# EAGLE library part XILINX_XC3S50A-4VQG100C (library Xilinx - XC3S50A-4VQG100C)
FPGA-XSP-XC3S50A-VQ100
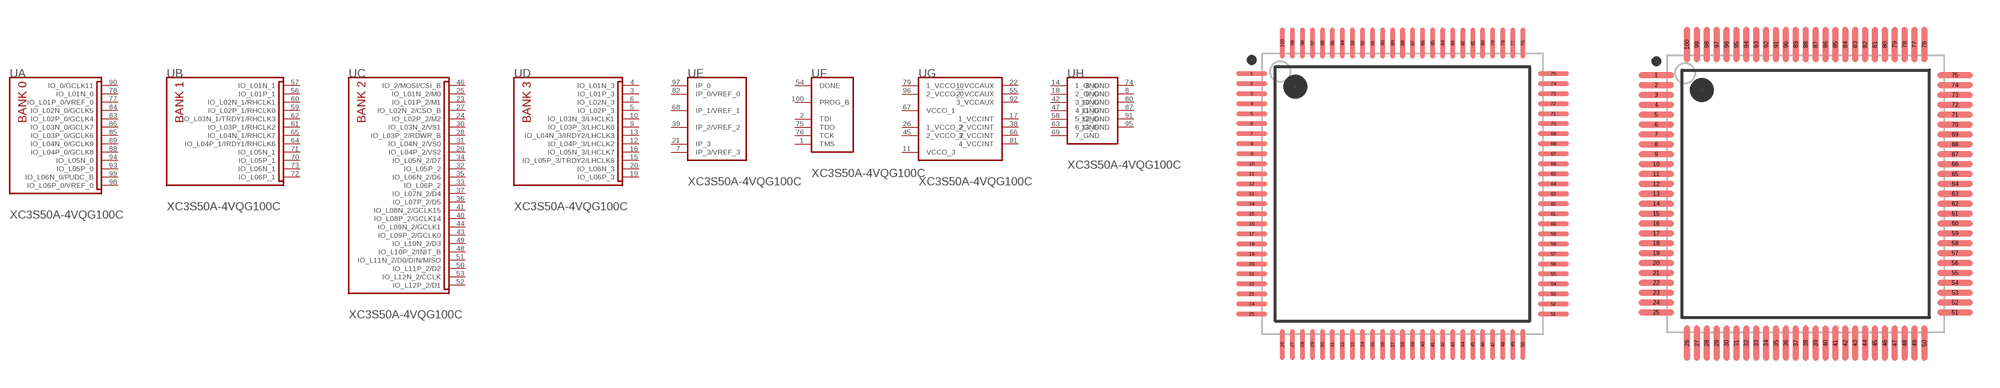
[diagram p0: symbol with the pads of XILINX_XC3S50A-4VQG100C_0; footprints XILINX_XC3S50A-4VQG100C_0, XILINX_XC3S50A-4VQG100C_1]

Designator prefix U; gates A=XILINX_XC3S50A-4VQG100C_0_0 B=XILINX_XC3S50A-4VQG100C_0_1 C=XILINX_XC3S50A-4VQG100C_0_2 D=XILINX_XC3S50A-4VQG100C_0_3 E=XILINX_XC3S50A-4VQG100C_0_4 F=XILINX_XC3S50A-4VQG100C_0_5 G=XILINX_XC3S50A-4VQG100C_0_6 H=XILINX_XC3S50A-4VQG100C_0_7

## XILINX_XC3S50A-4VQG100CXILINX_XC3S50A-4VQG100C_0_0 (CIIVA_IDS: 969722; CODE__JEDEC: MS-026-AED; DATASHEET_VERSION: ver1.8, Mar-2009; FOOTPRINT_VARIANT_NAME_0: Level C; FOOTPRINT_VARIANT_NAME_1: Level B; FOOTPRINT_VARIANT_NAME_2: Level A; IMPORTED: yes; IMPORTED_FROM: vault; IMPORT_TS: 1521866917; MF: Xilinx; MPN: XC3S50A-4VQG100C; PACKAGE: VQG100; PACKAGE_DESCRIPTION: 100-Pin Very Thin Quad Flat Pack (VQG100) - Pb-Free; PACKAGE_VERSION: ver1.2.1, Feb-2007; PIN_0_5_2_INSIDE_EDGE: clock; PREFIX: U; RELEASE_DATE: 1298004393; VAULT_GUID: A8426ADA-BBEF-4931-BDCF-1792DE133352; VAULT_REVISION: FF63C8BF-BEC3-4327-8A72-16ACE5AF5753)  [XILINX_XC3S50A-4VQG100C_0]
1  F:TMS  in
2  F:TDI  in
3  D:IO_L01P_3
4  D:IO_L01N_3
5  D:IO_L02P_3
6  D:IO_L02N_3
7  E:IP_3/VREF_3  in
8  H:9_GND  pwr
9  D:IO_L03P_3/LHCLK0
10  D:IO_L03N_3/LHCLK1
11  G:VCCO_3  pwr
12  D:IO_L04P_3/LHCLK2
13  D:IO_L04N_3/IRDY2/LHCLK3
14  H:1_GND  pwr
15  D:IO_L05P_3/TRDY2/LHCLK6
16  D:IO_L05N_3/LHCLK7
17  G:1_VCCINT  pwr
18  H:2_GND  pwr
19  D:IO_L06P_3
20  D:IO_L06N_3
21  E:IP_3  in
22  G:1_VCCAUX  pwr
23  C:IO_L01P_2/M1
24  C:IO_L02P_2/M2
25  C:IO_L01N_2/M0
26  G:1_VCCO_2  pwr
27  C:IO_L02N_2/CSO_B
28  C:IO_L03P_2/RDWR_B
29  C:IO_L04P_2/VS2
30  C:IO_L03N_2/VS1
31  C:IO_L04N_2/VS0
32  C:IO_L05P_2
33  C:IO_L06P_2
34  C:IO_L05N_2/D7
35  C:IO_L06N_2/D6
36  C:IO_L07P_2/D5
37  C:IO_L07N_2/D4
38  G:2_VCCINT  pwr
39  E:IP_2/VREF_2  in
40  C:IO_L08P_2/GCLK14
41  C:IO_L08N_2/GCLK15
42  H:3_GND  pwr
43  C:IO_L09P_2/GCLK0
44  C:IO_L09N_2/GCLK1
45  G:2_VCCO_2  pwr
46  C:IO_2/MOSI/CSI_B
47  H:4_GND  pwr
48  C:IO_L10P_2/INIT_B
49  C:IO_L10N_2/D3
50  C:IO_L11P_2/D2
51  C:IO_L11N_2/D0/DIN/MISO
52  C:IO_L12P_2/D1
53  C:IO_L12N_2/CCLK
54  F:DONE
55  G:2_VCCAUX  pwr
56  B:IO_L01P_1
57  B:IO_L01N_1
58  H:5_GND  pwr
59  B:IO_L02P_1/RHCLK0
60  B:IO_L02N_1/RHCLK1
61  B:IO_L03P_1/RHCLK2
62  B:IO_L03N_1/TRDY1/RHCLK3
63  H:6_GND  pwr
64  B:IO_L04P_1/IRDY1/RHCLK6
65  B:IO_L04N_1/RHCLK7
66  G:3_VCCINT  pwr
67  G:VCCO_1  pwr
68  E:IP_1/VREF_1  in
69  H:7_GND  pwr
70  B:IO_L05P_1
71  B:IO_L05N_1
72  B:IO_L06P_1
73  B:IO_L06N_1
74  H:8_GND  pwr
75  F:TDO  out
76  F:TCK  in
77  A:IO_L01P_0/VREF_0
78  A:IO_L01N_0
79  G:1_VCCO_0  pwr
80  H:10_GND  pwr
81  G:4_VCCINT  pwr
82  E:IP_0/VREF_0  in
83  A:IO_L02P_0/GCLK4
84  A:IO_L02N_0/GCLK5
85  A:IO_L03P_0/GCLK6
86  A:IO_L03N_0/GCLK7
87  H:11_GND  pwr
88  A:IO_L04P_0/GCLK8
89  A:IO_L04N_0/GCLK9
90  A:IO_0/GCLK11
91  H:12_GND  pwr
92  G:3_VCCAUX  pwr
93  A:IO_L05P_0
94  A:IO_L05N_0
95  H:13_GND  pwr
96  G:2_VCCO_0  pwr
97  E:IP_0  in
98  A:IO_L06P_0/VREF_0
99  A:IO_L06N_0/PUDC_B
100  F:PROG_B  in

## XILINX_XC3S50A-4VQG100CXILINX_XC3S50A-4VQG100C_0_1 (CIIVA_IDS: 969722; CODE__JEDEC: MS-026-AED; DATASHEET_VERSION: ver1.8, Mar-2009; FOOTPRINT_VARIANT_NAME_0: Level C; FOOTPRINT_VARIANT_NAME_1: Level B; FOOTPRINT_VARIANT_NAME_2: Level A; IMPORTED: yes; IMPORTED_FROM: vault; IMPORT_TS: 1521866917; MF: Xilinx; MPN: XC3S50A-4VQG100C; PACKAGE: VQG100; PACKAGE_DESCRIPTION: 100-Pin Very Thin Quad Flat Pack (VQG100) - Pb-Free; PACKAGE_VERSION: ver1.2.1, Feb-2007; PIN_0_5_2_INSIDE_EDGE: clock; PREFIX: U; RELEASE_DATE: 1298004393; VAULT_GUID: A8426ADA-BBEF-4931-BDCF-1792DE133352; VAULT_REVISION: FF63C8BF-BEC3-4327-8A72-16ACE5AF5753)  [XILINX_XC3S50A-4VQG100C_1]
Pads as for XILINX_XC3S50A-4VQG100C_0

## XILINX_XC3S50A-4VQG100CXILINX_XC3S50A-4VQG100C_0_2 (CIIVA_IDS: 969722; CODE__JEDEC: MS-026-AED; DATASHEET_VERSION: ver1.8, Mar-2009; FOOTPRINT_VARIANT_NAME_0: Level C; FOOTPRINT_VARIANT_NAME_1: Level B; FOOTPRINT_VARIANT_NAME_2: Level A; IMPORTED: yes; IMPORTED_FROM: vault; IMPORT_TS: 1521866917; MF: Xilinx; MPN: XC3S50A-4VQG100C; PACKAGE: VQG100; PACKAGE_DESCRIPTION: 100-Pin Very Thin Quad Flat Pack (VQG100) - Pb-Free; PACKAGE_VERSION: ver1.2.1, Feb-2007; PIN_0_5_2_INSIDE_EDGE: clock; PREFIX: U; RELEASE_DATE: 1298004393; VAULT_GUID: A8426ADA-BBEF-4931-BDCF-1792DE133352; VAULT_REVISION: FF63C8BF-BEC3-4327-8A72-16ACE5AF5753)  [XILINX_XC3S50A-4VQG100C_2]
Pads as for XILINX_XC3S50A-4VQG100C_0

## Footprint XILINX_XC3S50A-4VQG100C_0 (pad centres in mm)
FPGA-XSP-XC3S50A-VQ100
smd 1.55 x 0.25: 1 -7.525,6; 2 -7.525,5.5; 3 -7.525,5; 4 -7.525,4.5; 5 -7.525,4; 6 -7.525,3.5; 7 -7.525,3; 8 -7.525,2.5; 9 -7.525,2; 10 -7.525,1.5; 11 -7.525,1; 12 -7.525,0.5; 13 -7.525,0; 14 -7.525,-0.5; 15 -7.525,-1; 16 -7.525,-1.5; 17 -7.525,-2; 18 -7.525,-2.5; 19 -7.525,-3; 20 -7.525,-3.5; 21 -7.525,-4; 22 -7.525,-4.5; 23 -7.525,-5; 24 -7.525,-5.5; 25 -7.525,-6; 51 7.525,-6; 52 7.525,-5.5; 53 7.525,-5; 54 7.525,-4.5; 55 7.525,-4; 56 7.525,-3.5; 57 7.525,-3; 58 7.525,-2.5; 59 7.525,-2; 60 7.525,-1.5; 61 7.525,-1; 62 7.525,-0.5; 63 7.525,0; 64 7.525,0.5; 65 7.525,1; 66 7.525,1.5; 67 7.525,2; 68 7.525,2.5; 69 7.525,3; 70 7.525,3.5; 71 7.525,4; 72 7.525,4.5; 73 7.525,5; 74 7.525,5.5; 75 7.525,6
smd 0.25 x 1.55: 26 -6,-7.525; 27 -5.5,-7.525; 28 -5,-7.525; 29 -4.5,-7.525; 30 -4,-7.525; 31 -3.5,-7.525; 32 -3,-7.525; 33 -2.5,-7.525; 34 -2,-7.525; 35 -1.5,-7.525; 36 -1,-7.525; 37 -0.5,-7.525; 38 0,-7.525; 39 0.5,-7.525; 40 1,-7.525; 41 1.5,-7.525; 42 2,-7.525; 43 2.5,-7.525; 44 3,-7.525; 45 3.5,-7.525; 46 4,-7.525; 47 4.5,-7.525; 48 5,-7.525; 49 5.5,-7.525; 50 6,-7.525; 76 6,7.525; 77 5.5,7.525; 78 5,7.525; 79 4.5,7.525; 80 4,7.525; 81 3.5,7.525; 82 3,7.525; 83 2.5,7.525; 84 2,7.525; 85 1.5,7.525; 86 1,7.525; 87 0.5,7.525; 88 0,7.525; 89 -0.5,7.525; 90 -1,7.525; 91 -1.5,7.525; 92 -2,7.525; 93 -2.5,7.525; 94 -3,7.525; 95 -3.5,7.525; 96 -4,7.525; 97 -4.5,7.525; 98 -5,7.525; 99 -5.5,7.525; 100 -6,7.525

## Footprint XILINX_XC3S50A-4VQG100C_1 (pad centres in mm)
FPGA-XSP-XC3S50A-VQ100
smd 1.8 x 0.3: 1 -7.55,6; 2 -7.55,5.5; 3 -7.55,5; 4 -7.55,4.5; 5 -7.55,4; 6 -7.55,3.5; 7 -7.55,3; 8 -7.55,2.5; 9 -7.55,2; 10 -7.55,1.5; 11 -7.55,1; 12 -7.55,0.5; 13 -7.55,0; 14 -7.55,-0.5; 15 -7.55,-1; 16 -7.55,-1.5; 17 -7.55,-2; 18 -7.55,-2.5; 19 -7.55,-3; 20 -7.55,-3.5; 21 -7.55,-4; 22 -7.55,-4.5; 23 -7.55,-5; 24 -7.55,-5.5; 25 -7.55,-6; 51 7.55,-6; 52 7.55,-5.5; 53 7.55,-5; 54 7.55,-4.5; 55 7.55,-4; 56 7.55,-3.5; 57 7.55,-3; 58 7.55,-2.5; 59 7.55,-2; 60 7.55,-1.5; 61 7.55,-1; 62 7.55,-0.5; 63 7.55,0; 64 7.55,0.5; 65 7.55,1; 66 7.55,1.5; 67 7.55,2; 68 7.55,2.5; 69 7.55,3; 70 7.55,3.5; 71 7.55,4; 72 7.55,4.5; 73 7.55,5; 74 7.55,5.5; 75 7.55,6
smd 0.3 x 1.8: 26 -6,-7.55; 27 -5.5,-7.55; 28 -5,-7.55; 29 -4.5,-7.55; 30 -4,-7.55; 31 -3.5,-7.55; 32 -3,-7.55; 33 -2.5,-7.55; 34 -2,-7.55; 35 -1.5,-7.55; 36 -1,-7.55; 37 -0.5,-7.55; 38 0,-7.55; 39 0.5,-7.55; 40 1,-7.55; 41 1.5,-7.55; 42 2,-7.55; 43 2.5,-7.55; 44 3,-7.55; 45 3.5,-7.55; 46 4,-7.55; 47 4.5,-7.55; 48 5,-7.55; 49 5.5,-7.55; 50 6,-7.55; 76 6,7.55; 77 5.5,7.55; 78 5,7.55; 79 4.5,7.55; 80 4,7.55; 81 3.5,7.55; 82 3,7.55; 83 2.5,7.55; 84 2,7.55; 85 1.5,7.55; 86 1,7.55; 87 0.5,7.55; 88 0,7.55; 89 -0.5,7.55; 90 -1,7.55; 91 -1.5,7.55; 92 -2,7.55; 93 -2.5,7.55; 94 -3,7.55; 95 -3.5,7.55; 96 -4,7.55; 97 -4.5,7.55; 98 -5,7.55; 99 -5.5,7.55; 100 -6,7.55

## Footprint XILINX_XC3S50A-4VQG100C_2 (pad centres in mm)
FPGA-XSP-XC3S50A-VQ100
smd 2.1 x 0.3: 1 -7.6,6; 2 -7.6,5.5; 3 -7.6,5; 4 -7.6,4.5; 5 -7.6,4; 6 -7.6,3.5; 7 -7.6,3; 8 -7.6,2.5; 9 -7.6,2; 10 -7.6,1.5; 11 -7.6,1; 12 -7.6,0.5; 13 -7.6,0; 14 -7.6,-0.5; 15 -7.6,-1; 16 -7.6,-1.5; 17 -7.6,-2; 18 -7.6,-2.5; 19 -7.6,-3; 20 -7.6,-3.5; 21 -7.6,-4; 22 -7.6,-4.5; 23 -7.6,-5; 24 -7.6,-5.5; 25 -7.6,-6; 51 7.6,-6; 52 7.6,-5.5; 53 7.6,-5; 54 7.6,-4.5; 55 7.6,-4; 56 7.6,-3.5; 57 7.6,-3; 58 7.6,-2.5; 59 7.6,-2; 60 7.6,-1.5; 61 7.6,-1; 62 7.6,-0.5; 63 7.6,0; 64 7.6,0.5; 65 7.6,1; 66 7.6,1.5; 67 7.6,2; 68 7.6,2.5; 69 7.6,3; 70 7.6,3.5; 71 7.6,4; 72 7.6,4.5; 73 7.6,5; 74 7.6,5.5; 75 7.6,6
smd 0.3 x 2.1: 26 -6,-7.6; 27 -5.5,-7.6; 28 -5,-7.6; 29 -4.5,-7.6; 30 -4,-7.6; 31 -3.5,-7.6; 32 -3,-7.6; 33 -2.5,-7.6; 34 -2,-7.6; 35 -1.5,-7.6; 36 -1,-7.6; 37 -0.5,-7.6; 38 0,-7.6; 39 0.5,-7.6; 40 1,-7.6; 41 1.5,-7.6; 42 2,-7.6; 43 2.5,-7.6; 44 3,-7.6; 45 3.5,-7.6; 46 4,-7.6; 47 4.5,-7.6; 48 5,-7.6; 49 5.5,-7.6; 50 6,-7.6; 76 6,7.6; 77 5.5,7.6; 78 5,7.6; 79 4.5,7.6; 80 4,7.6; 81 3.5,7.6; 82 3,7.6; 83 2.5,7.6; 84 2,7.6; 85 1.5,7.6; 86 1,7.6; 87 0.5,7.6; 88 0,7.6; 89 -0.5,7.6; 90 -1,7.6; 91 -1.5,7.6; 92 -2,7.6; 93 -2.5,7.6; 94 -3,7.6; 95 -3.5,7.6; 96 -4,7.6; 97 -4.5,7.6; 98 -5,7.6; 99 -5.5,7.6; 100 -6,7.6